# Altium footprint library Mezeq_Connectors.PcbLib: 38 footprints (part 2 of 3)
Each footprint in its own frame and in the unit in brackets; x right, y up, seen from the top. Pads: shape width x height; smd on the part's side, far side on the other; paste and mask are expansions set on the pad; w line width, h text height; cw(c..) or ccw(c..) is an arc to the next point about the centre after c.
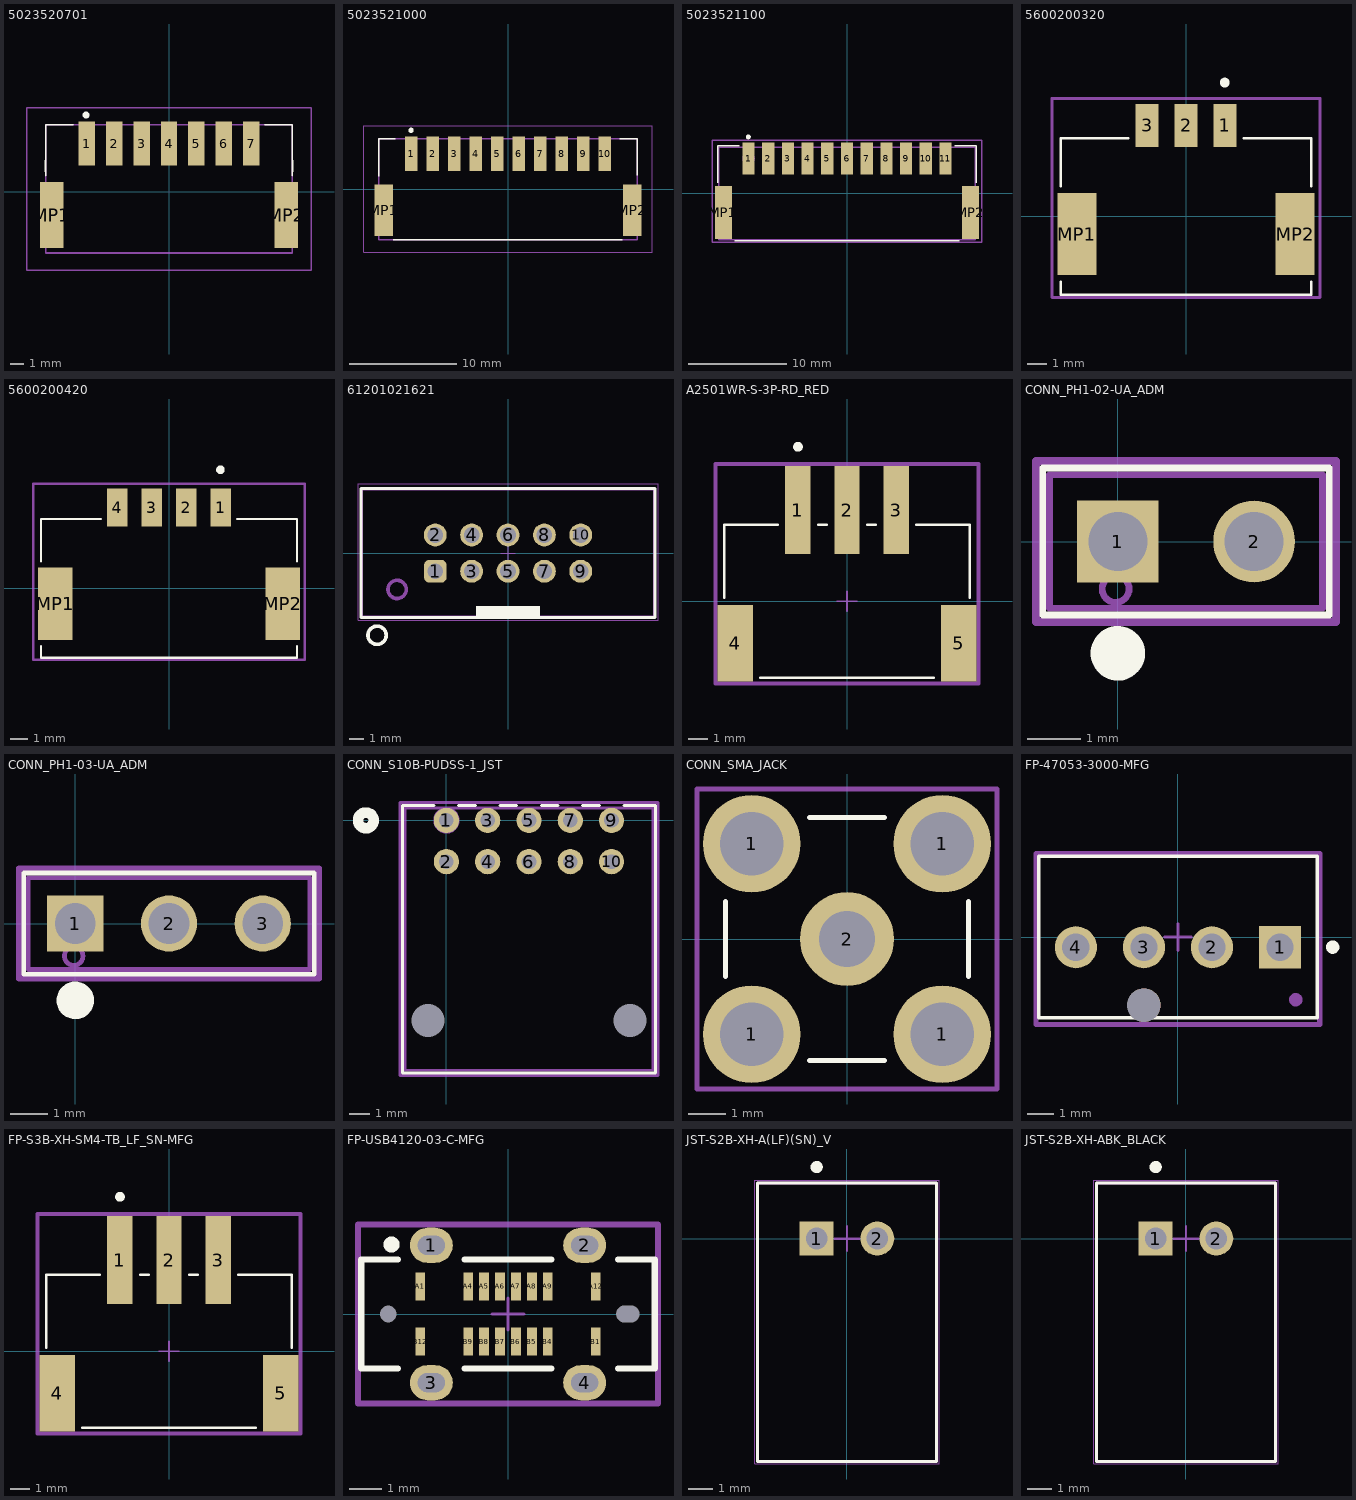
[diagram p1: the footprints below, top view; thin cyan lines are the x and y axes]

## 5023520701 [mm]
pads (9):
  rect 1.2x3.2 smd: 1(-6,3.53) 2(-4,3.53) 3(-2,3.53) 4(0,3.53) 5(2,3.53) 6(4,3.53) 7(6,3.53)
  rect 1.7x4.8 smd: MP1(-8.55,-1.69) MP2(8.55,-1.69)
Top Overlay:
  circle w0.3: c-6.053,5.615 r0.1
  lines w0.127: -9,1.2 -9,4.9 -7,4.9 ; 7,4.9 9,4.9 9,1.2
  lines w0.15: -9,1.5 -9,2.3 ; 9,1.5 9,2.3
Top Assembly:
  circle w0.127: c-6,3.53 r0.266
  lines w0.127: -9,-4.462 -9,4.9 -7.65,4.9 9,4.9 9,-4.462 -3.812,-4.462 -9,-4.462
  text ".Designator" at -7.618,-0.508 h1.52
Top Courtyard:
  lines w0.1: -10.4,-5.7 10.4,-5.7 10.4,6.13 -10.4,6.13 -10.4,-5.7
3D body "502352-0700.stp": height 6.41, standoff 0.01, extent -9,-4.48 9,4.92

## 5023521000 [mm]
pads (12):
  rect 1.2x3.2 smd: 1(-9,3.265) 2(-7,3.265) 3(-5,3.265) 4(-3,3.265) 5(-1,3.265) 6(1,3.265) 7(3,3.265) 8(5,3.265) 9(7,3.265) 10(9,3.265)
  rect 1.7x4.8 smd: MP1(-11.55,-1.965) MP2(11.55,-1.965)
Top Overlay:
  circle w0.3: c-9.017,5.461 r0.1
  lines w0.127: -12,1.2 -12,4.665 -10.5,4.665 ; -10.66,-4.735 10.645,-4.735 ; 10.4,4.665 12,4.665 12,1.3
Top Assembly:
  circle w0.127: c-9,3.265 r0.364
  lines w0.127: -12,-4.735 -12,4.665 12,4.665 12,-4.735 -12,-4.735
  text ".Designator" at -7.618,-0.508 h1.52
Top Courtyard:
  lines w0.1: -13.4,-5.865 -13.4,5.865 13.4,5.865 13.4,-5.865 -13.4,-5.865
3D body "502352-1000.stp": height 6.4, standoff 0, extent -12,-4.7 12,4.7

## 5023521100 [mil] "CONN HEADER SMD R/A 11POS 2MM"
pads (13):
  rect 49x128 smd: 1(-393.7,138.94) 2(-314.96,138.94) 3(-236.22,138.94) 4(-157.48,138.94) 5(-78.74,138.94) 6(0,138.94) 7(78.74,138.94) 8(157.48,138.94) 9(236.22,138.94) 10(314.96,138.94) 11(393.7,138.94)
  rect 69x211 smd: MP1(-494.09,-76.81) MP2(494.09,-76.81)
Top Overlay:
  circle w11.81: c-394.37,225.39 r3.94
  lines w5: -517,41.79 -517,190 -431.3,190 ; -448.99,-190 448.99,-190 ; 431.3,190 517,190 517,41.79
Top Assembly:
  circle w20: c-393.7,138.94 r15
  lines w5: -512,-185 512,-185 512,185 -512,185 -512,-185
  text ".Designator" at -299.9,-19.99 h60
Top Courtyard:
  lines w6: -538.59,-195 -538.59,212.94 538.59,212.94 538.59,-195 -538.59,-195
3D body "5023521100.stp": height 252.47, standoff 0.5, extent -511.81,-192.91 511.81,177.17

## 5600200320 [mm] "CONN HEADER SMD 3POS 2MM"
height 8
pads (5):
  rect 1.2x2.2 smd: 1(2,4.679) 2(0,4.679) 3(-2,4.679)
  rect 2x4.2 smd: MP1(-5.6,-0.901) MP2(5.6,-0.901)
Top Overlay:
  circle w0.3: c1.983,6.875 r0.1
  lines w0.127: -6.426,-3.355 -6.426,-4.026 6.426,-4.026 6.426,-3.355 ; -6.426,1.553 -6.426,4.026 -2.955,4.026 ; 2.955,4.026 6.426,4.026 6.426,1.553
Top Assembly:
  circle w0.127: c2,4.679 r0.182
  lines w0.127: -6.883,-4.153 -6.883,6.063 6.883,6.063 6.883,-4.153 -6.883,-4.153
  text ".Designator" at -7.618,-0.508 h1.52
Top Courtyard:
  lines w0.152: -6.883,-4.153 6.883,-4.153 6.883,6.063 -6.883,6.063 -6.883,-4.153
3D body "5600200320.stp": height 8.01, standoff 0.01, extent -6.3,-3.899 6.3,5.251

## 5600200420 [mm] "CONN HEADER SMD 4POS 2MM"
height 8
pads (6):
  rect 1.2x2.2 smd: 1(3,4.679) 2(1,4.679) 3(-1,4.679) 4(-3,4.679)
  rect 2x4.2 smd: MP1(-6.6,-0.901) MP2(6.6,-0.901)
Top Overlay:
  circle w0.3: c2.983,6.875 r0.1
  lines w0.127: -7.429,-3.355 -7.429,-4.026 7.429,-4.026 7.429,-3.355 ; -7.429,1.553 -7.429,4.026 -3.955,4.026 ; 3.955,4.026 7.429,4.026 7.429,1.553
Top Assembly:
  circle w0.127: c3,4.75 r0.221
  lines w0.127: -7.883,-4.153 7.883,-4.153 7.883,6.063 -7.883,6.063 -7.883,-4.153
  text ".Designator" at -7.618,-0.508 h1.52
Top Courtyard:
  lines w0.152: -7.883,-4.153 -7.883,6.063 7.883,6.063 7.883,-4.153 -7.883,-4.153
3D body "5600200420.stp": height 8.01, standoff 0.01, extent -7.3,-3.899 7.3,5.251

## 61201021621 [mm] "10 pins, straight, gold plating"
height 9.1
pads (10):
  rrect50% 1.6x1.6 hole 1.1 mask+0.05: 1(-5.08,-1.27)
  round 1.6 hole 1.1 mask+0.05: 2(-5.08,1.27) 3(-2.54,-1.27) 4(-2.54,1.27) 5(0,-1.27) 6(0,1.27) 7(2.54,-1.27) 8(2.54,1.27) 9(5.08,-1.27) 10(5.08,1.27)
Top Overlay:
  circle w0.254: c-9.147,-5.74 r0.635
  rectangle: -2.25,-4.5 2.25,-3.7
  lines w0.2: -10.28,-4.5 10.28,-4.5 10.28,4.5 -10.28,4.5 -10.28,-4.5
Top Assembly:
  circle w0.254: c-7.747,-2.54 r0.635
  rectangle: -2.25,-4.425 2.25,-3.7
  lines w0.127: -10.18,-4.425 10.18,-4.425 10.18,4.425 -10.18,4.425 -10.18,-4.425
  text ".Designator" at -9.997,-0.666 h2
Top Component Outline:
  rectangle: -2.25,-4.425 2.25,-3.7
  lines w0.1: -10.18,-4.425 -10.18,4.425 10.18,4.425 10.18,-4.425 -10.18,-4.425
Top Courtyard:
  lines w0.05: -0.5,0 0.5,0 ; 0,-0.5 0,0.5 ; -10.48,-4.7 10.48,-4.7 10.48,4.85 -10.48,4.85 -10.48,-4.7
3D body "61201021621.stp": height 9.13, standoff -2.98, extent -10.18,-4.425 10.18,4.748

## A2501WR-S-3P-RD_RED [mm] "CONN HEADER SMD R/A 3POS 2.5MM"
pads (5):
  rect 1.3x4.5 smd: 1(-2.5,4.65) 2(0,4.65) 3(2.5,4.65)
  rect 1.8x3.9 smd: 4(-5.7,-2.15) 5(5.7,-2.15)
Top Overlay:
  circle w0.25: c-2.5,7.875 r0.125
  lines w0.127: -6.25,0.175 -6.25,3.9 -3.525,3.9 ; -4.425,-3.9 4.425,-3.9 ; -1.475,3.9 -1.025,3.9 ; 1.025,3.9 1.475,3.9 ; 3.525,3.9 6.25,3.9 6.25,0.175
Top Assembly:
  circle w0.25: c-2.5,6.3 r0.3
  lines w0.127: -6.7,-4.2 6.7,-4.2 6.7,7 -6.7,7 -6.7,-4.2
  text ".Designator" at -9.997,0.734 h2
Top Courtyard:
  lines w0.2: -6.7,-4.2 6.7,-4.2 6.7,7 -6.7,7 -6.7,-4.2
Top Component Center:
  lines w0.1: -0.5,0 0.5,0 ; 0,-0.5 0,0.5
3D body "Conn_JST_S3B-XH-SM4-TB_LF_SN_eec.STEP": height 6, standoff 0, extent -6.225,-3.9 6.225,6.1

## CONN_PH1-02-UA_ADM [mil] "CONN HEADER VERT 2POS 2.54MM"
height 334.65
pads (2):
  rect 60x60 hole 43.31 paste-99999 mask+0: 1(0,0)
  round 60 hole 43.31 paste-99999 mask+0: 2(100,0)
Top Overlay:
  circle w20: c0,-82 r10
  lines w5: -55,-54 155,-54 155,54 -55,54 -55,-54
Top Assembly:
  circle w5: c-1.62,-34.76 r9.84
  lines w5: -50,-49 150,-49 150,49 -50,49 -50,-49
  text ".Designator" at -151.49,-16.66 h50
Top Courtyard:
  lines w6: -60,-59 -60,59 160,59 160,-59 -60,-59
3D body "PH1-02-UA.STEP": height 335.15, standoff -119.58, extent -50.28,-49.21 150,49.21

## CONN_PH1-03-UA_ADM [mil] "CONN HEADER VERT 3POS 2.54MM"
height 334.65
pads (3):
  rect 60x60 hole 43.31 paste-99999 mask+0: 1(0,0)
  round 60 hole 43.31 paste-99999 mask+0: 2(100,0) 3(200,0)
Top Overlay:
  circle w20: c0,-82 r10
  lines w5: -55,-54 -55,54 255,54 255,-54 -55,-54
Top Assembly:
  circle w5: c-1.62,-34.76 r9.84
  lines w5: -50,-49 -50,49 250,49 250,-49 -50,-49
  text ".Designator" at -151.49,-16.66 h50
Top Courtyard:
  lines w6: -60,-59 260,-59 260,59 -60,59 -60,-59
3D body "CONN_PH1-03-UA_ADM.step": height 335, standoff -200, extent -50,-49.02 250,49.02

## CONN_S10B-PUDSS-1_JST [mil]
pads (12):
  round 48 / inner round 60 / far side round 48 hole 28 mask+1.97: 1(0,0) 2(0,-78.74) 3(78.74,0) 4(78.74,-78.74) 5(157.48,0) 6(157.48,-78.74) 7(236.22,0) 8(236.22,-78.74) 9(314.96,0) 10(314.96,-78.74)
  round 0 hole 63 unplated mask+1.97: 11(-35.43,-381.89) 12(350.39,-381.89)
Top Overlay:
  circle w20: c-153.52,0 r15
  lines w6: -23.6,28.62 -83.52,28.62 -83.52,-481.38 398.48,-481.38 398.48,28.62 338.57,28.62 ; 23.6,28.62 55.14,28.62 ; 102.34,28.62 133.88,28.62 ; 181.09,28.62 212.62,28.62 ; 259.83,28.62 291.36,28.62
Bottom Overlay:
  circle w20: c-153.52,0 r15
Top Assembly:
  circle w20: c0,0 r15
  lines w5: -78.52,-476.38 -78.52,23.62 393.48,23.62 393.48,-476.38 -78.52,-476.38
  text ".Designator" at -255.78,-254.58 h78.74
Top Courtyard:
  lines w6: -88.52,-486.38 403.48,-486.38 403.48,34 -88.52,34 -88.52,-486.38
3D body "S10B-PUDSS-1.STEP": height 335.15, standoff -117.61, extent -78.74,-476.38 393.7,23.62

## CONN_SMA_JACK [mm] "CONN SMA RCPT STR 50 OHM PCB"
pads (5):
  round 2.6 hole 1.7: 1(-2.54,-2.54) 1(-2.54,2.54) 1(2.54,-2.54) 1(2.54,2.54)
  round 2.5 hole 1.5: 2(0,0)
Top Overlay:
  lines w0.127: -3.238,-1 -3.238,1 ; -1,-3.238 1,-3.238 ; -1,3.238 1,3.238 ; 3.238,-1 3.238,1
Top Assembly:
  lines w0.127: -4,-4 4,-4 4,4 -4,4 -4,-4
  text ".Designator" at -5.078,-0.339 h1.02
3D body "RFPC-SMA28-F_1.0.STEP": height 9.6, standoff -3.9, extent -3.5,-3.5 3.5,3.5

## FP-47053-3000-MFG [mm]
pads (5):
  rect 1.57x1.57 hole 1.02 mask+0.05: 1(3.81,-0.38)
  round 1.57 hole 1.02 mask+0.05: 2(1.27,-0.38) 3(-1.27,-0.38) 4(-3.81,-0.38)
  round 1.25 hole 1.25 unplated mask+0.05: ""(-1.27,-2.54)
Top Overlay:
  circle w0.25: c5.775,-0.375 r0.125
  lines w0.127: -5.2,-3.02 5.2,-3.02 5.2,3.02 -5.2,3.02 -5.2,-3.02
Top Assembly:
  circle w0.25: c4.4,-2.34 r0.125
  lines w0.127: -5.3,-3.265 5.3,-3.265 5.3,3.12 -5.3,3.12 -5.3,-3.265
  text ".Designator" at -4.998,-0.333 h1
Top Courtyard:
  lines w0.2: -5.3,-3.265 5.3,-3.265 5.3,3.12 -5.3,3.12 -5.3,-3.265
Top Component Center:
  lines w0.1: -0.5,0 0.5,0 ; 0,-0.5 0,0.5
3D body "Conn_Molex_47053-3000_eec.STEP": height 10.29, standoff -4, extent -5.1,-2.921 5.101,2.92

## FP-S3B-XH-SM4-TB_LF_SN-MFG [mm]
pads (5):
  rect 1.3x4.5 smd: 1(-2.5,4.65) 2(0,4.65) 3(2.5,4.65)
  rect 1.8x3.9 smd: 4(-5.7,-2.15) 5(5.7,-2.15)
Top Overlay:
  circle w0.25: c-2.5,7.875 r0.125
  lines w0.127: -6.25,0.175 -6.25,3.9 -3.525,3.9 ; -4.425,-3.9 4.425,-3.9 ; -1.475,3.9 -1.025,3.9 ; 1.025,3.9 1.475,3.9 ; 3.525,3.9 6.25,3.9 6.25,0.175
Top Assembly:
  circle w0.25: c-2.5,6.3 r0.3
  lines w0.127: -6.7,-4.2 6.7,-4.2 6.7,7 -6.7,7 -6.7,-4.2
  text ".Designator" at -9.997,0.734 h2
Top Courtyard:
  lines w0.2: -6.7,-4.2 6.7,-4.2 6.7,7 -6.7,7 -6.7,-4.2
Top Component Center:
  lines w0.1: -0.5,0 0.5,0 ; 0,-0.5 0,0.5
3D body "Conn_JST_S3B-XH-SM4-TB_LF_SN_eec.STEP": height 6, standoff 0, extent -6.225,-3.9 6.225,6.1

## FP-USB4120-03-C-MFG [mm]
pads (22):
  rrect100% 1.35x1.1 hole 0.6 slot 0.85 at 0 deg paste-2539.97: 1(-2.4,2.15) 2(2.4,2.15) 3(-2.4,-2.15) 4(2.4,-2.15)
  rect 0.3x0.87 smd paste+0 mask+0: A1(-2.75,0.865) A4(-1.25,0.865) A5(-0.75,0.865) A6(-0.25,0.865) A7(0.25,0.865) A8(0.75,0.865) A9(1.25,0.865) A12(2.75,0.865) B1(2.75,-0.865) B4(1.25,-0.865) B5(0.75,-0.865) B6(0.25,-0.865) B7(-0.25,-0.865) B8(-0.75,-0.865) B9(-1.25,-0.865) B12(-2.75,-0.865)
  round 0 hole 0.52 unplated paste-2539.97 mask+0.05: ""(-3.75,0)
  rrect100% 0x0 hole 0.52 slot 0.72 at 0 deg unplated paste-2539.97 mask+0.05: ""(3.75,0)
Top Overlay:
  circle w0.25: c-3.645,2.175 r0.125
  lines w0.2: -3.45,-1.705 -4.595,-1.705 -4.595,1.705 -3.45,1.705 ; -1.35,-1.705 1.35,-1.705 ; -1.35,1.705 1.35,1.705 ; 3.45,-1.705 4.595,-1.705 4.595,1.705 3.45,1.705
Top Assembly:
  circle w0.127: c-2.4,2.15 r0.225
  lines w0.127: -4.695,-2.8 -4.695,2.8 4.695,2.8 4.695,-2.8 -4.695,-2.8
  text ".Designator" at -4.998,-0.333 h1
Top Courtyard:
  lines w0.2: -4.695,-2.8 -4.695,2.8 4.695,2.8 4.695,-2.8 -4.695,-2.8
Top Component Center:
  lines w0.1: -0.5,0 0.5,0 ; 0,-0.5 0,0.5
3D body "Conn_GCT_USB4120-03-C_eec.STEP": height 0.25, standoff 0, extent -4.695,-2.8 4.695,2.8

## JST-S2B-XH-A(LF)(SN)_V [mm] "Header, 2-Leads, Body 7.4x11.5mm, Pitch 2.5mm"
height 6.1
pads (2):
  rect 1.4x1.4 hole 0.9 mask+0.05: 1(-1.25,0)
  round 1.4 hole 0.9 mask+0.05: 2(1.25,0)
Top Overlay:
  circle w0.25: c-1.25,2.95 r0.125
  lines w0.127: -3.697,2.3 -3.7,2.3 ; -3.7,2.3 -3.7,-9.2 3.7,-9.2 3.7,2.3 -3.7,2.3
Top Assembly:
  circle w0.25: c-1.25,0 r0.35
  lines w0.127: -3.7,-9.2 -3.7,2.3 3.7,2.3 3.7,-9.2 -3.7,-9.2
  text ".Designator" at -9.997,-4.666 h2
Top Courtyard:
  lines w0.05: -3.8,-9.3 -3.8,2.4 3.8,2.4 3.8,-9.3 -3.8,-9.3
  lines w0.1: -0.5,0 0.5,0 ; 0,-0.5 0,0.5
3D body "S2B-XH-A.STEP": height 6.11, standoff -3.39, extent -3.7,-9.2 3.7,2.3

## JST-S2B-XH-ABK_BLACK [mm] "Header, 2-Leads, Body 7.4x11.5mm, Pitch 2.5mm, BLACK"
height 6.1
pads (2):
  rect 1.4x1.4 hole 0.9 mask+0.05: 1(-1.25,0)
  round 1.4 hole 0.9 mask+0.05: 2(1.25,0)
Top Overlay:
  circle w0.25: c-1.25,2.95 r0.125
  lines w0.127: -3.697,2.3 -3.7,2.3 ; -3.7,2.3 3.7,2.3 3.7,-9.2 -3.7,-9.2 -3.7,2.3
Top Assembly:
  circle w0.25: c-1.25,0 r0.35
  lines w0.127: -3.7,-9.2 3.7,-9.2 3.7,2.3 -3.7,2.3 -3.7,-9.2
  text ".Designator" at -9.997,-4.666 h2
Top Courtyard:
  lines w0.05: -3.8,-9.3 3.8,-9.3 3.8,2.4 -3.8,2.4 -3.8,-9.3
  lines w0.1: -0.5,0 0.5,0 ; 0,-0.5 0,0.5
3D body "S2B-XH-A.STEP": height 6.11, standoff -3.39, extent -3.7,-9.2 3.7,2.3